# Altium integrated library KBL406G.IntLib: 1 symbol
Pins are listed as number, name and electrical type; pins without a type are passive.

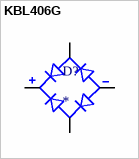
[diagram p0: symbol KBL406G]

## KBL406G
designator D?
MP: KBL406G; Availability: Unavailable; Package: None; Value: *; Price: None
footprint SIP600W130P510L1900H1630Q4
pins: AC1, AC2, NEG, POS